# EAGLE library part СНП394-10 (library connectors)
РЮМК.430420.033 ТУ Соединитель электрический прямоугольный типа СНП394 предназначен для работы в электрических цепях постоянного, переменного и импульсного токов в радиоэлектронной аппаратуре специального и общепромышленного назначения. Технические условия ОТК: РЮМК.430420.047 ТУ Технические условия ВП: РЮМК.430420.033 ТУ Производитель: АО «Карачевский завод "Электродеталь" 242500 Брянская область, г. Карачев, ул. Горького, 1
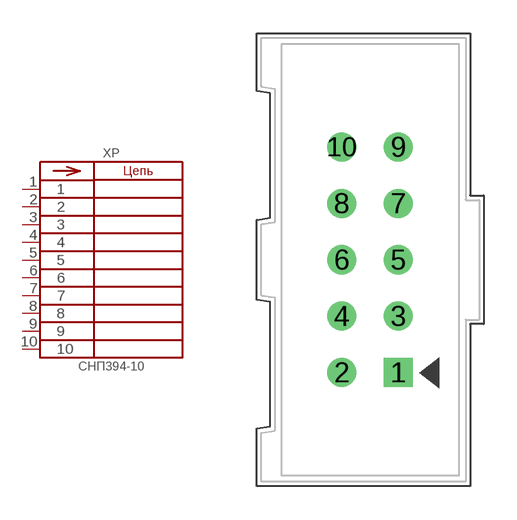
[diagram p14: symbol with the pads of СНП394(вертикаль); footprint СНП394(вертикаль)]

Designator prefix XP

## СНП394-10ВП21-2  [СНП394(вертикаль)]
1  1  pas
2  2  pas
3  3  pas
4  4  pas
5  5  pas
6  6  pas
7  7  pas
8  8  pas
9  9  pas
10  10  pas

## СНП394-10ВП23-2  [СНП394(вертикаль)]
Pads as for СНП394(вертикаль)

## Footprint СНП394(вертикаль) (pad centres in mm)
drill 0.8 square: 1 1.27,-5.08
drill 0.8: 2 -1.27,-5.08; 3 1.27,-2.54; 4 -1.27,-2.54; 5 1.27,0; 6 -1.27,0; 7 1.27,2.54; 8 -1.27,2.54; 9 1.27,5.08; 10 -1.27,5.08